# Altium footprint library ZIF_FPC_0.5mm_6P.PcbLib: 1 footprints
Each footprint in its own frame and in the unit in brackets; x right, y up, seen from the top. Pads: shape width x height; smd on the part's side, far side on the other; paste and mask are expansions set on the pad; w line width, h text height; cw(c..) or ccw(c..) is an arc to the next point about the centre after c.
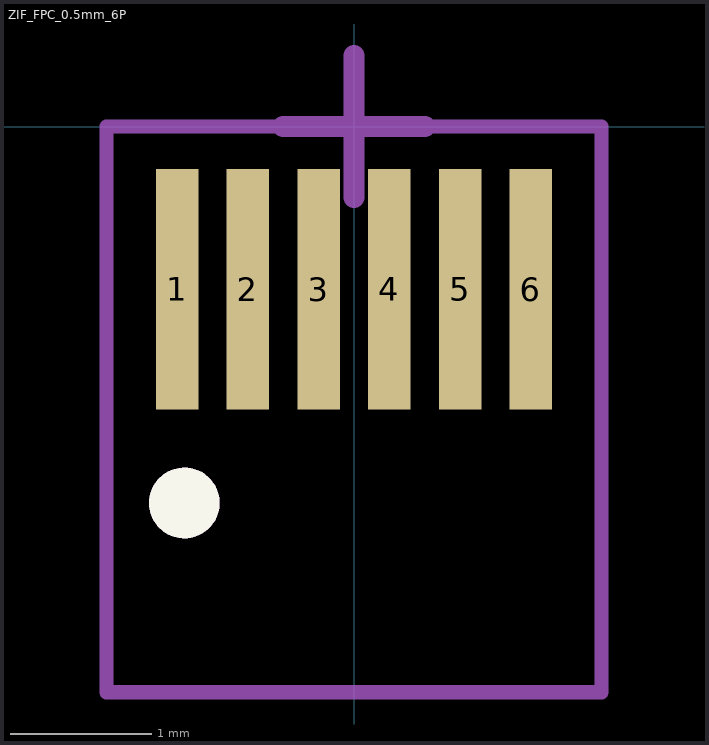
[diagram p0: the footprint, top view; thin cyan lines are the x and y axes]

## ZIF_FPC_0.5mm_6P [mm]
pads (6):
  rect 0.3x1.7 smd paste-1 mask+0.102: 1(-1.25,-1.15) 2(-0.75,-1.15) 3(-0.25,-1.15) 4(0.25,-1.15) 5(0.75,-1.15) 6(1.25,-1.15)
Top Overlay:
  circle w0.25: c-1.2,-2.662 r0.125
Top Solder:
  rectangle: -1.75,-2 1.75,0
Top 3D Body:
  circle w0.25: c-1.2,-2.662 r0.125
  lines w0.1: -1.75,-4 -1.75,0 1.75,0 1.75,-4 -1.75,-4
Top Courtyard:
  lines w0.15: -0.5,0 0.5,0 ; 0,-0.5 0,0.5